# Altium footprint library 16.10.PcbLib: 1 footprints
Each footprint in its own frame and in the unit in brackets; x right, y up, seen from the top. Pads: shape width x height; smd on the part's side, far side on the other; paste and mask are expansions set on the pad; w line width, h text height; cw(c..) or ccw(c..) is an arc to the next point about the centre after c.
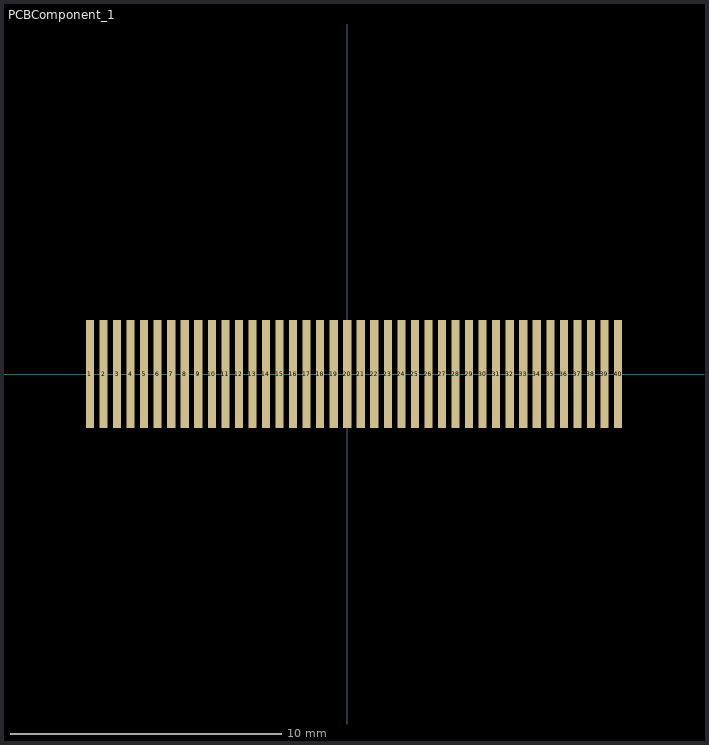
[diagram p0: the footprint, top view; thin cyan lines are the x and y axes]

## PCBComponent_1 [mm]
pads (40):
  rect 0.3x4 smd: 1(-9.5,0) 2(-9,0) 3(-8.5,0) 4(-8,0) 5(-7.5,0) 6(-7,0) 7(-6.5,0) 8(-6,0) 9(-5.5,0) 10(-5,0) 11(-4.5,0) 12(-4,0) 13(-3.5,0) 14(-3,0) 15(-2.5,0) 16(-2,0) 17(-1.5,0) 18(-1,0) 19(-0.5,0) 20(0,0) 21(0.5,0) 22(1,0) 23(1.5,0) 24(2,0) 25(2.5,0) 26(3,0) 27(3.5,0) 28(4,0) 29(4.5,0) 30(5,0) 31(5.5,0) 32(6,0) 33(6.5,0) 34(7,0) 35(7.5,0) 36(8,0) 37(8.5,0) 38(9,0) 39(9.5,0) 40(10,0)